# Altium integrated library Silicon Labs Clocks and Oscillators.IntLib: 678 symbols (part 14 of 45)
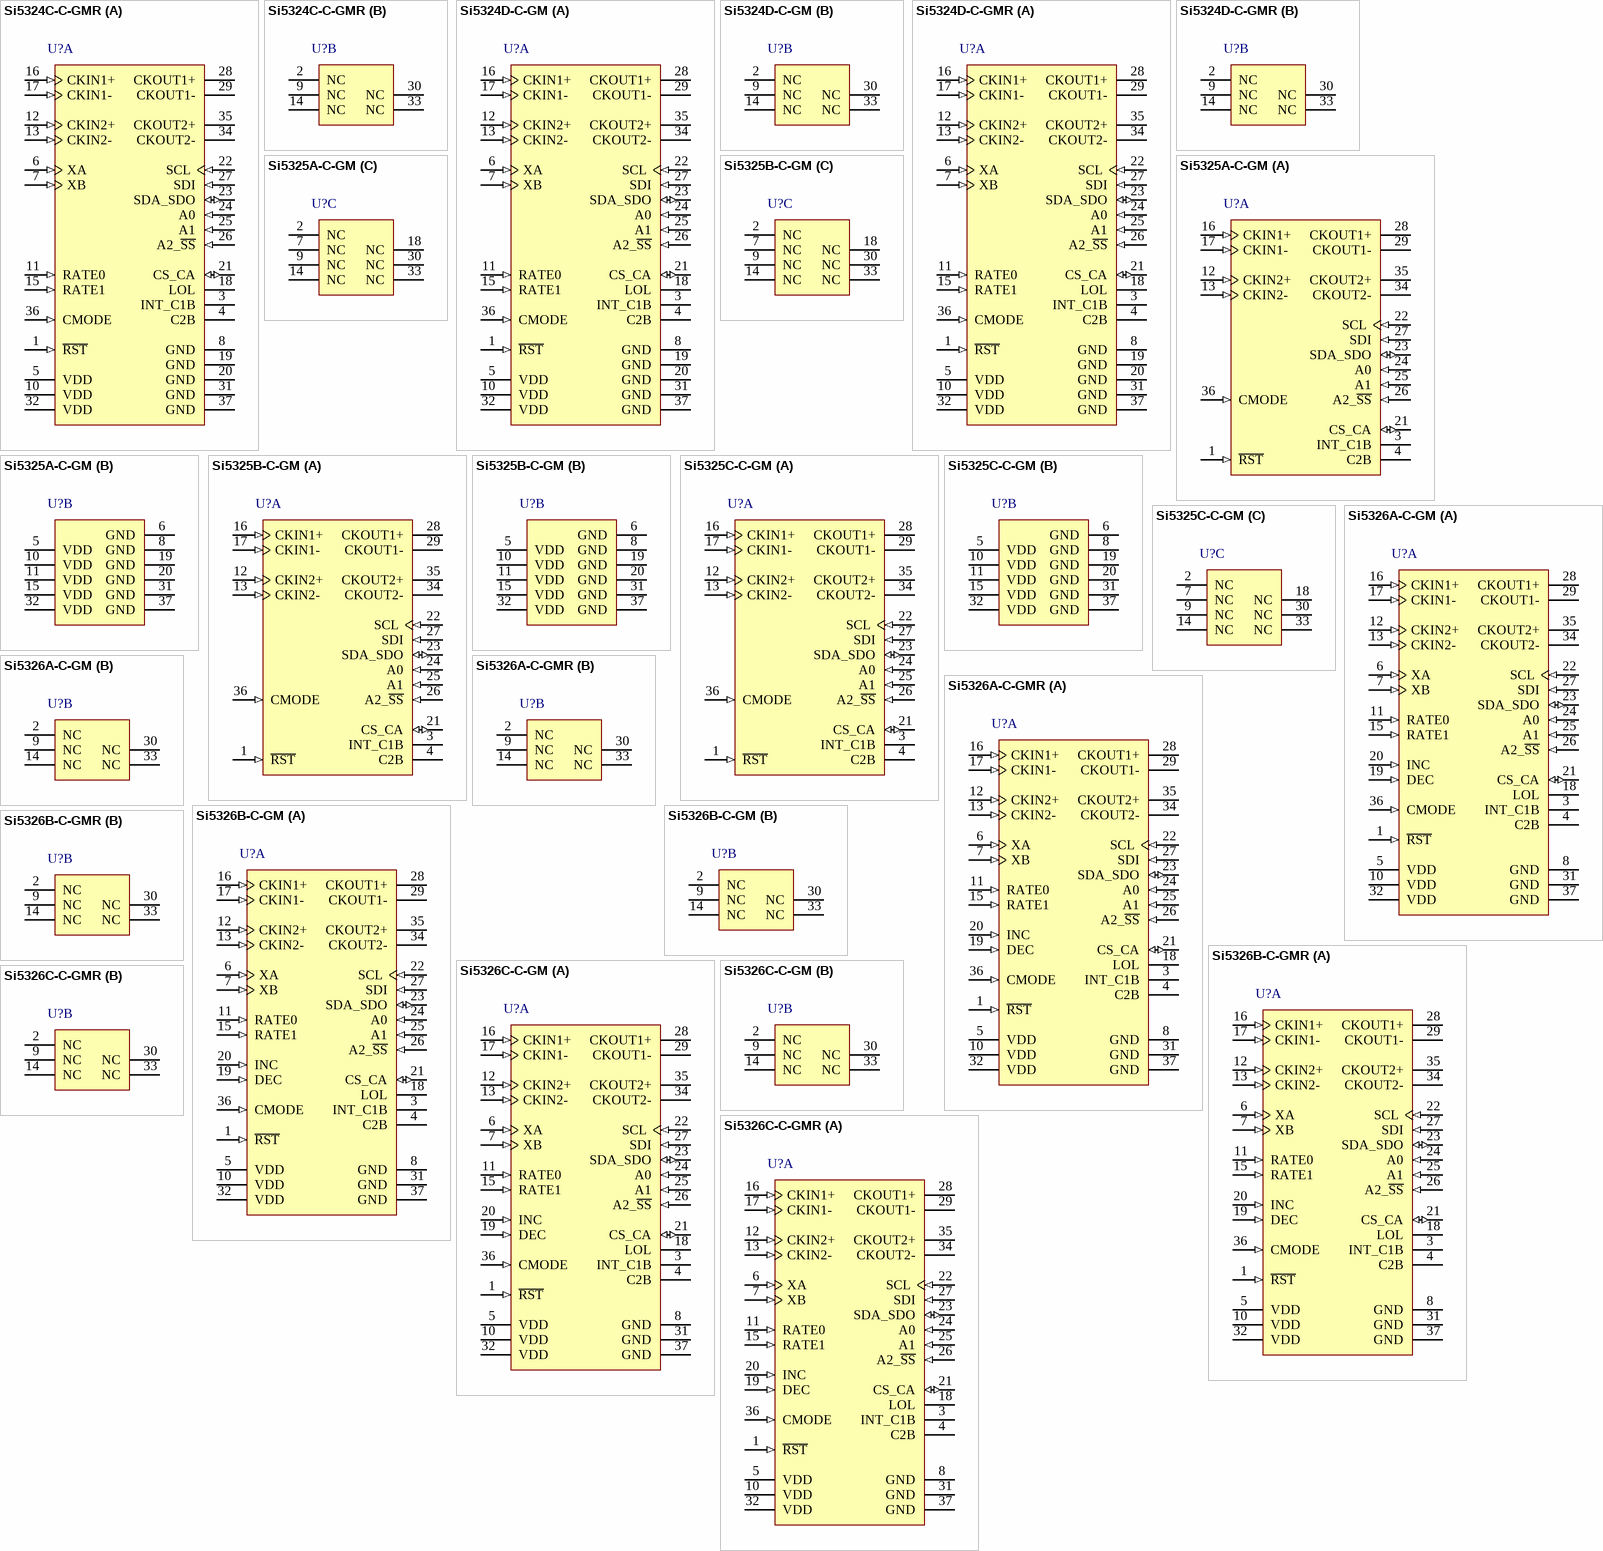
[diagram p57: symbols Si5324C-C-GMR to Si5326C-C-GMR]

## Si5326B-C-GM
designator U?
Any-Frequency Precision Clock Multiplier / Jitter Attenuator, 1.8 / 2.5 / 3.3 V, 808 MHz Max Output, -40 to 85 degC, 36-pin QFN; Manufacturer: Silicon Labs; PartNumber: Si5326B-C-GM; Output Format: LVPECL; LVDS; CML; LVCMOS; Output Frequency (MHz): 0.002 to 808; Reference Inputs: 2; VDD: 1.8 V; 2.5 V; 3.3 V; Sub-Family: Clock Generators; DatasheetVersion: Rev. 1.0; PackageReference: QFN-36; PackageDescription: 36-Pin Quad-Flat No-Leads Package, Body 6 x 6 mm, Pitch 0.5 mm; Supplier 1: Digi-Key; Supplier Part Number 1: 336-1745-ND; Supplier 2: Mouser; Supplier Part Number 2: 634-SI5326B-C-GM; Mounting Technology: Surface Mount; Code_JEDEC: MO-220; Code_IPC: J-STD-020; ComponentLink1Description: Manufacturer URL; ComponentLink1URL: http://www.silabs.com/; ComponentLink2Description: Datasheet; ComponentLink2URL: https://www.silabs.com/Support%20Documents/TechnicalDocs/Si5326.pdf; ComponentLink3Description: Package Specification; ComponentLink3URL: http://www.silabs.com/Support%20Documents/TechnicalDocs/Si5316.pdf
footprint SLAB-QFN-36-4100x4100TP_N (QFN, 36-Leads, Body 6x6mm, Pitch 0.5mm, Thermal Pad 4.1x4.1mm, IPC Medium Density)
footprint SLAB-QFN-36-4100x4100TP_L (QFN, 36-Leads, Body 6x6mm, Pitch 0.5mm, Thermal Pad 4.1x4.1mm, IPC High Density)
footprint SLAB-QFN-36-4100x4100TP_M (QFN, 36-Leads, Body 6x6mm, Pitch 0.5mm, Thermal Pad 4.1x4.1mm, IPC Low Density)
part A pins: 1 ~{RST} (in) "External Reset.", 3 INT_C1B (hiz) "Interrupt/CKIN1 Invalid Indicator.", 4 C2B (hiz) "CKIN2 Invalid Indicator.", 5 VDD (power) "Supply.", 6 XA (in) "External Crystal or Reference Clock.", 7 XB (in) "External Crystal or Reference Clock.", 8 GND (power) "Ground.", 10 VDD (power) "Supply.", 11 RATE0 (in) "External Crystal or Reference Clock Rate.", 12 CKIN2+ (in) "Clock Input 2.", 13 CKIN2- (in) "Clock Input 2.", 15 RATE1 (in) "External Crystal or Reference Clock Rate.", 16 CKIN1+ (in) "Clock Input 1.", 17 CKIN1- (in) "Clock Input 1.", 18 LOL (hiz) "PLL Loss of Lock Indicator.", 19 DEC (in) "Skew Decrement.", 20 INC (in) "Skew Increment.", 21 CS_CA (io) "Input Clock Select/Active Clock Indicator.", 22 SCL (in) "Serial Clock.", 23 SDA_SDO (io) "Serial Data.", 24 A0 (in) "Serial Port Address.", 25 A1 (in) "Serial Port Address.", 26 A2_~{SS} (in) "Serial Port Address/Slave Select.", 27 SDI (in) "Serial Data In.", 28 CKOUT1+ (hiz) "Output Clock 1.", 29 CKOUT1- (hiz) "Output Clock 1.", 31 GND (power) "Ground.", 32 VDD (power) "Supply.", 34 CKOUT2- (hiz) "Output Clock 2.", 35 CKOUT2+ (hiz) "Output Clock 2.", 36 CMODE (in) "Control Mode.", 37 GND (power) "Ground Pad."
part B pins: 2 NC "No Connection.", 9 NC "No Connection.", 14 NC "No Connection.", 30 NC "No Connection.", 33 NC "No Connection."

## Si5326B-C-GMR
designator U?
Any-Frequency Precision Clock Multiplier / Jitter Attenuator, 1.8 / 2.5 / 3.3 V, 808 MHz Max Output, -40 to 85 degC, 36-pin QFN, Tape and Reel; Manufacturer: Silicon Labs; PartNumber: Si5326B-C-GMR; Output Format: LVPECL; LVDS; CML; LVCMOS; Output Frequency (MHz): 0.002 to 808; Phase Jitter (RMS): 0.3 ps; Reference Inputs: 2; VDD: 1.8 V; 2.5 V; 3.3 V; Sub-Family: Clock Generators; DatasheetVersion: Rev. 1.0; PackageReference: QFN-36; PackageDescription: 36-Pin Quad-Flat No-Leads Package, Body 6 x 6 mm, Pitch 0.5 mm; Supplier 1: Digi-Key; Supplier Part Number 1: SI5326B-C-GMR-ND; Supplier 2: Mouser; Supplier Part Number 2: 634-SI5326B-C-GMR; Packing: Tape and Reel; Mounting Technology: Surface Mount; Code_JEDEC: MO-220; Code_IPC: J-STD-020; ComponentLink1Description: Manufacturer URL; ComponentLink1URL: http://www.silabs.com/; ComponentLink2Description: Datasheet; ComponentLink2URL: https://www.silabs.com/Support%20Documents/TechnicalDocs/Si5326.pdf; ComponentLink3Description: Package Specification; ComponentLink3URL: http://www.silabs.com/Support%20Documents/TechnicalDocs/Si5316.pdf
footprint SLAB-QFN-36-4100x4100TP_N (QFN, 36-Leads, Body 6x6mm, Pitch 0.5mm, Thermal Pad 4.1x4.1mm, IPC Medium Density)
footprint SLAB-QFN-36-4100x4100TP_L (QFN, 36-Leads, Body 6x6mm, Pitch 0.5mm, Thermal Pad 4.1x4.1mm, IPC High Density)
footprint SLAB-QFN-36-4100x4100TP_M (QFN, 36-Leads, Body 6x6mm, Pitch 0.5mm, Thermal Pad 4.1x4.1mm, IPC Low Density)
part A pins: 1 ~{RST} (in) "External Reset.", 3 INT_C1B (hiz) "Interrupt/CKIN1 Invalid Indicator.", 4 C2B (hiz) "CKIN2 Invalid Indicator.", 5 VDD (power) "Supply.", 6 XA (in) "External Crystal or Reference Clock.", 7 XB (in) "External Crystal or Reference Clock.", 8 GND (power) "Ground.", 10 VDD (power) "Supply.", 11 RATE0 (in) "External Crystal or Reference Clock Rate.", 12 CKIN2+ (in) "Clock Input 2.", 13 CKIN2- (in) "Clock Input 2.", 15 RATE1 (in) "External Crystal or Reference Clock Rate.", 16 CKIN1+ (in) "Clock Input 1.", 17 CKIN1- (in) "Clock Input 1.", 18 LOL (hiz) "PLL Loss of Lock Indicator.", 19 DEC (in) "Skew Decrement.", 20 INC (in) "Skew Increment.", 21 CS_CA (io) "Input Clock Select/Active Clock Indicator.", 22 SCL (in) "Serial Clock.", 23 SDA_SDO (io) "Serial Data.", 24 A0 (in) "Serial Port Address.", 25 A1 (in) "Serial Port Address.", 26 A2_~{SS} (in) "Serial Port Address/Slave Select.", 27 SDI (in) "Serial Data In.", 28 CKOUT1+ (hiz) "Output Clock 1.", 29 CKOUT1- (hiz) "Output Clock 1.", 31 GND (power) "Ground.", 32 VDD (power) "Supply.", 34 CKOUT2- (hiz) "Output Clock 2.", 35 CKOUT2+ (hiz) "Output Clock 2.", 36 CMODE (in) "Control Mode.", 37 GND (power) "Ground Pad."
part B pins: 2 NC "No Connection.", 9 NC "No Connection.", 14 NC "No Connection.", 30 NC "No Connection.", 33 NC "No Connection."

## Si5326C-C-GM
designator U?
Any-Frequency Precision Clock Multiplier / Jitter Attenuator, 1.8 / 2.5 / 3.3 V, 346 MHz Max Output, -40 to 85 degC, 36-pin QFN; Manufacturer: Silicon Labs; PartNumber: Si5326C-C-GM; Output Format: LVPECL; LVDS; CML; LVCMOS; Output Frequency (MHz): 0.002 to 346; Reference Inputs: 2; VDD: 1.8 V; 2.5 V; 3.3 V; Sub-Family: Clock Generators; DatasheetVersion: Rev. 1.0; PackageReference: QFN-36; PackageDescription: 36-Pin Quad-Flat No-Leads Package, Body 6 x 6 mm, Pitch 0.5 mm; Supplier 1: Digi-Key; Supplier Part Number 1: 336-1746-5-ND; Supplier 2: Mouser; Supplier Part Number 2: 634-SI5326C-C-GM; Mounting Technology: Surface Mount; Code_JEDEC: MO-220; Code_IPC: J-STD-020; ComponentLink1Description: Manufacturer URL; ComponentLink1URL: http://www.silabs.com/; ComponentLink2Description: Datasheet; ComponentLink2URL: https://www.silabs.com/Support%20Documents/TechnicalDocs/Si5326.pdf; ComponentLink3Description: Package Specification; ComponentLink3URL: http://www.silabs.com/Support%20Documents/TechnicalDocs/Si5316.pdf
footprint SLAB-QFN-36-4100x4100TP_N (QFN, 36-Leads, Body 6x6mm, Pitch 0.5mm, Thermal Pad 4.1x4.1mm, IPC Medium Density)
footprint SLAB-QFN-36-4100x4100TP_L (QFN, 36-Leads, Body 6x6mm, Pitch 0.5mm, Thermal Pad 4.1x4.1mm, IPC High Density)
footprint SLAB-QFN-36-4100x4100TP_M (QFN, 36-Leads, Body 6x6mm, Pitch 0.5mm, Thermal Pad 4.1x4.1mm, IPC Low Density)
part A pins: 1 ~{RST} (in) "External Reset.", 3 INT_C1B (hiz) "Interrupt/CKIN1 Invalid Indicator.", 4 C2B (hiz) "CKIN2 Invalid Indicator.", 5 VDD (power) "Supply.", 6 XA (in) "External Crystal or Reference Clock.", 7 XB (in) "External Crystal or Reference Clock.", 8 GND (power) "Ground.", 10 VDD (power) "Supply.", 11 RATE0 (in) "External Crystal or Reference Clock Rate.", 12 CKIN2+ (in) "Clock Input 2.", 13 CKIN2- (in) "Clock Input 2.", 15 RATE1 (in) "External Crystal or Reference Clock Rate.", 16 CKIN1+ (in) "Clock Input 1.", 17 CKIN1- (in) "Clock Input 1.", 18 LOL (hiz) "PLL Loss of Lock Indicator.", 19 DEC (in) "Skew Decrement.", 20 INC (in) "Skew Increment.", 21 CS_CA (io) "Input Clock Select/Active Clock Indicator.", 22 SCL (in) "Serial Clock.", 23 SDA_SDO (io) "Serial Data.", 24 A0 (in) "Serial Port Address.", 25 A1 (in) "Serial Port Address.", 26 A2_~{SS} (in) "Serial Port Address/Slave Select.", 27 SDI (in) "Serial Data In.", 28 CKOUT1+ (hiz) "Output Clock 1.", 29 CKOUT1- (hiz) "Output Clock 1.", 31 GND (power) "Ground.", 32 VDD (power) "Supply.", 34 CKOUT2- (hiz) "Output Clock 2.", 35 CKOUT2+ (hiz) "Output Clock 2.", 36 CMODE (in) "Control Mode.", 37 GND (power) "Ground Pad."
part B pins: 2 NC "No Connection.", 9 NC "No Connection.", 14 NC "No Connection.", 30 NC "No Connection.", 33 NC "No Connection."

## Si5326C-C-GMR
designator U?
Any-Frequency Precision Clock Multiplier / Jitter Attenuator, 1.8 / 2.5 / 3.3 V, 346 MHz Max Output, -40 to 85 degC, 36-pin QFN, Tape and Reel; Manufacturer: Silicon Labs; PartNumber: Si5326C-C-GMR; Output Format: LVPECL; LVDS; CML; LVCMOS; Output Frequency (MHz): 0.002 to 346; Phase Jitter (RMS): 0.3 ps; Reference Inputs: 2; VDD: 1.8 V; 2.5 V; 3.3 V; Sub-Family: Clock Generators; DatasheetVersion: Rev. 1.0; PackageReference: QFN-36; PackageDescription: 36-Pin Quad-Flat No-Leads Package, Body 6 x 6 mm, Pitch 0.5 mm; Supplier 1: Digi-Key; Supplier Part Number 1: SI5326C-C-GMR-ND; Supplier 2: Mouser; Supplier Part Number 2: 634-SI5326C-C-GMR; Packing: Tape and Reel; Mounting Technology: Surface Mount; Code_JEDEC: MO-220; Code_IPC: J-STD-020; ComponentLink1Description: Manufacturer URL; ComponentLink1URL: http://www.silabs.com/; ComponentLink2Description: Datasheet; ComponentLink2URL: https://www.silabs.com/Support%20Documents/TechnicalDocs/Si5326.pdf; ComponentLink3Description: Package Specification; ComponentLink3URL: http://www.silabs.com/Support%20Documents/TechnicalDocs/Si5316.pdf
footprint SLAB-QFN-36-4100x4100TP_N (QFN, 36-Leads, Body 6x6mm, Pitch 0.5mm, Thermal Pad 4.1x4.1mm, IPC Medium Density)
footprint SLAB-QFN-36-4100x4100TP_L (QFN, 36-Leads, Body 6x6mm, Pitch 0.5mm, Thermal Pad 4.1x4.1mm, IPC High Density)
footprint SLAB-QFN-36-4100x4100TP_M (QFN, 36-Leads, Body 6x6mm, Pitch 0.5mm, Thermal Pad 4.1x4.1mm, IPC Low Density)
part A pins: 1 ~{RST} (in) "External Reset.", 3 INT_C1B (hiz) "Interrupt/CKIN1 Invalid Indicator.", 4 C2B (hiz) "CKIN2 Invalid Indicator.", 5 VDD (power) "Supply.", 6 XA (in) "External Crystal or Reference Clock.", 7 XB (in) "External Crystal or Reference Clock.", 8 GND (power) "Ground.", 10 VDD (power) "Supply.", 11 RATE0 (in) "External Crystal or Reference Clock Rate.", 12 CKIN2+ (in) "Clock Input 2.", 13 CKIN2- (in) "Clock Input 2.", 15 RATE1 (in) "External Crystal or Reference Clock Rate.", 16 CKIN1+ (in) "Clock Input 1.", 17 CKIN1- (in) "Clock Input 1.", 18 LOL (hiz) "PLL Loss of Lock Indicator.", 19 DEC (in) "Skew Decrement.", 20 INC (in) "Skew Increment.", 21 CS_CA (io) "Input Clock Select/Active Clock Indicator.", 22 SCL (in) "Serial Clock.", 23 SDA_SDO (io) "Serial Data.", 24 A0 (in) "Serial Port Address.", 25 A1 (in) "Serial Port Address.", 26 A2_~{SS} (in) "Serial Port Address/Slave Select.", 27 SDI (in) "Serial Data In.", 28 CKOUT1+ (hiz) "Output Clock 1.", 29 CKOUT1- (hiz) "Output Clock 1.", 31 GND (power) "Ground.", 32 VDD (power) "Supply.", 34 CKOUT2- (hiz) "Output Clock 2.", 35 CKOUT2+ (hiz) "Output Clock 2.", 36 CMODE (in) "Control Mode.", 37 GND (power) "Ground Pad."
part B pins: 2 NC "No Connection.", 9 NC "No Connection.", 14 NC "No Connection.", 30 NC "No Connection.", 33 NC "No Connection."

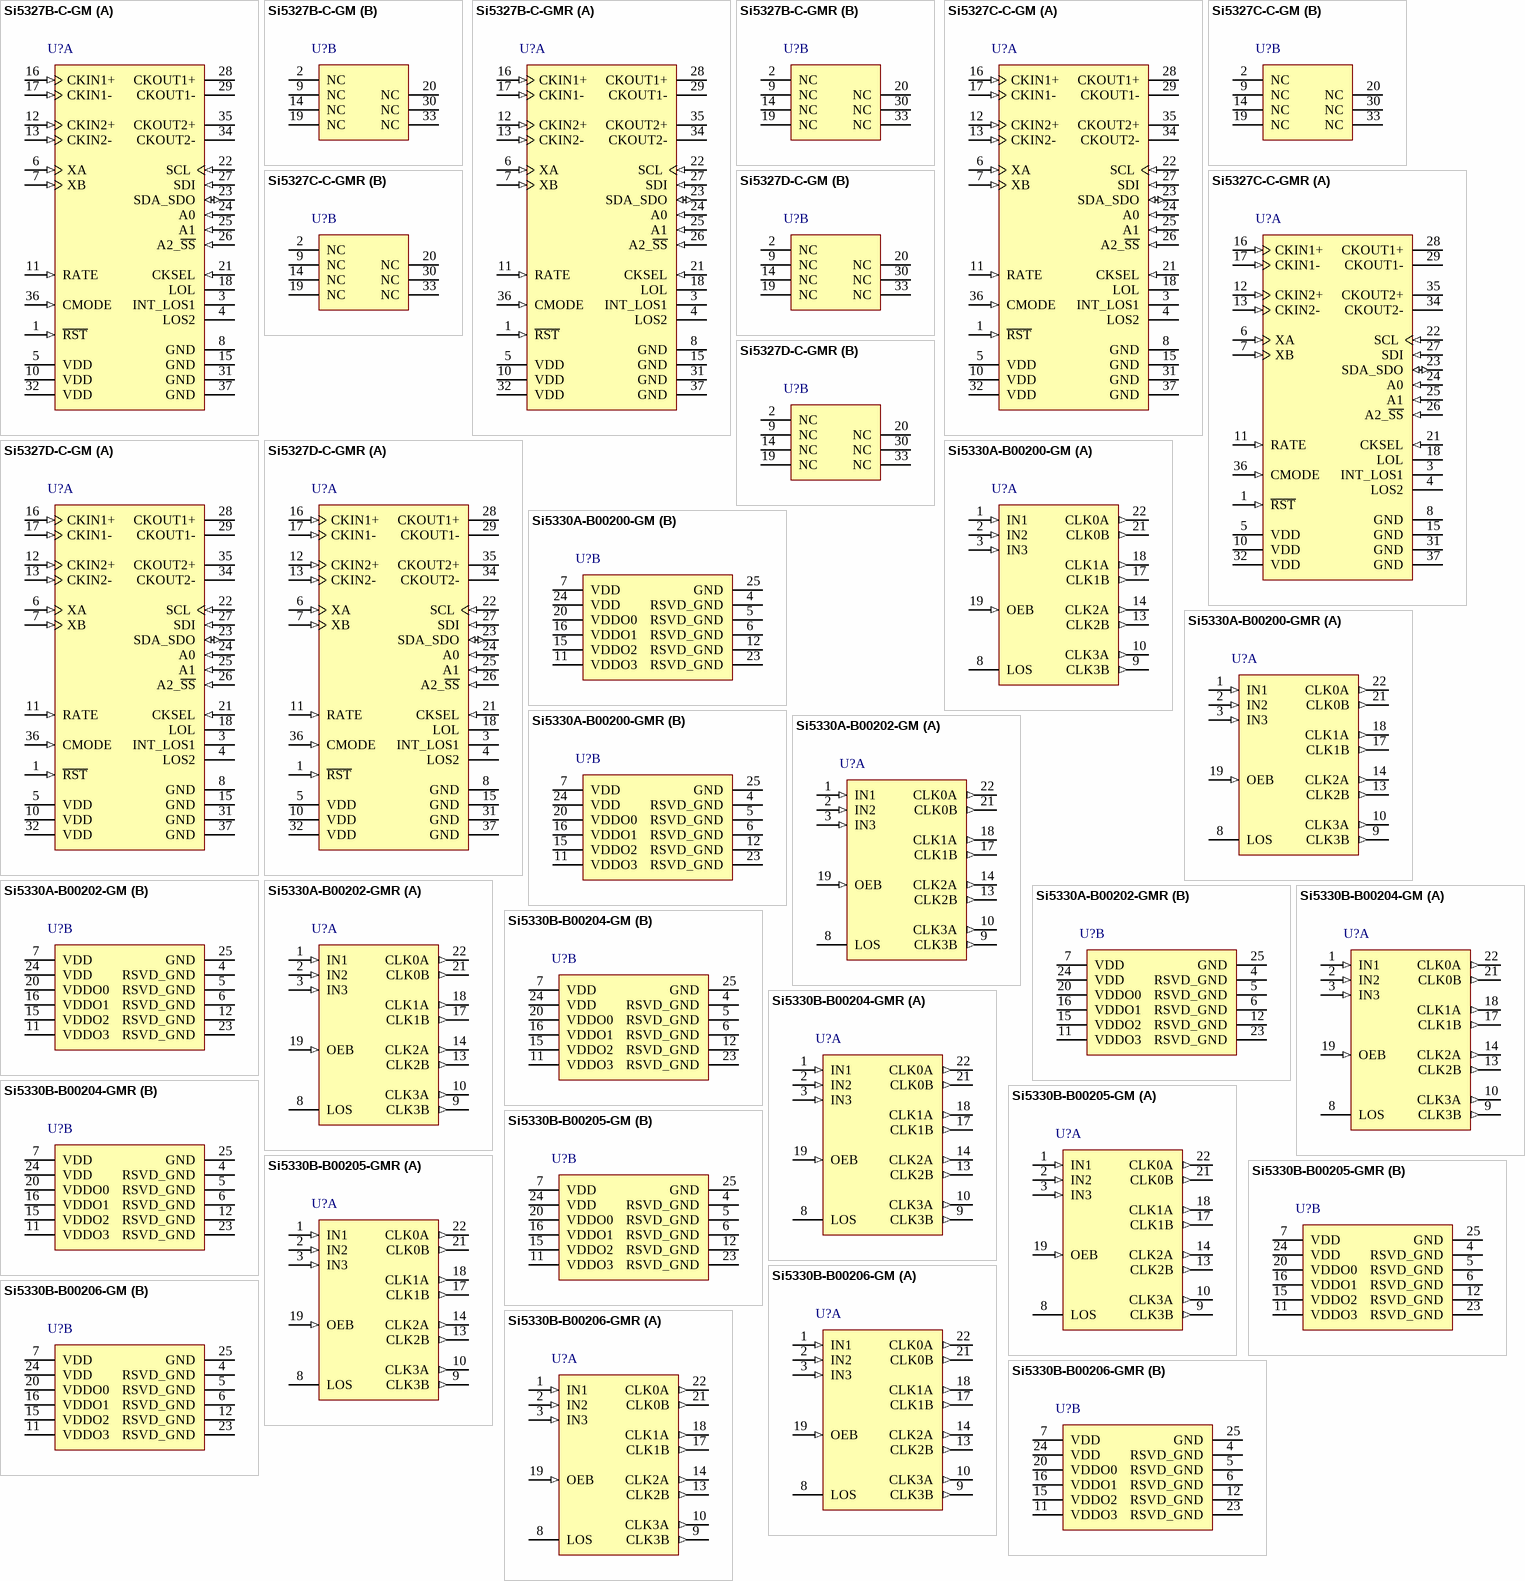
[diagram p15: symbols Si5327B-C-GM to Si5330B-B00206-GMR]

## Si5327B-C-GM
designator U?
Any-Frequency Precision Clock Multiplier / Jitter Attenuator, 1.8 / 2.5 / 3.3 V, 0.002 to 808 MHz Output, -40 to 85 degC, 36-pin QFN; Manufacturer: Silicon Labs; PartNumber: Si5327B-C-GM; Output Format: LVPECL; LVDS; CML; LVCMOS; Reference Inputs: 2; VDD: 1.8 V; 2.5 V; 3.3 V; Sub-Family: Clock Generators; DatasheetVersion: Rev. 1.0; PackageReference: QFN-36; PackageDescription: 36-Pin Quad-Flat No-Leads Package, Body 6 x 6 mm, Pitch 0.5 mm; Supplier 1: Digi-Key; Supplier Part Number 1: SI5327B-C-GM-ND; Supplier 2: Mouser; Supplier Part Number 2: 634-SI5327B-C-GM; Output Frequency (MHz): 0.002 to 808; Mounting Technology: Surface Mount; Code_JEDEC: MO-220; Code_IPC: J-STD-020; ComponentLink1Description: Manufacturer URL; ComponentLink1URL: http://www.silabs.com/; ComponentLink2Description: Datasheet; ComponentLink2URL: http://www.silabs.com/Support%20Documents/TechnicalDocs/Si5327.pdf; ComponentLink3Description: Package Specification; ComponentLink3URL: http://www.silabs.com/Support%20Documents/TechnicalDocs/Si5316.pdf
footprint SLAB-QFN-36-4100x4100TP_N (QFN, 36-Leads, Body 6x6mm, Pitch 0.5mm, Thermal Pad 4.1x4.1mm, IPC Medium Density)
footprint SLAB-QFN-36-4100x4100TP_L (QFN, 36-Leads, Body 6x6mm, Pitch 0.5mm, Thermal Pad 4.1x4.1mm, IPC High Density)
footprint SLAB-QFN-36-4100x4100TP_M (QFN, 36-Leads, Body 6x6mm, Pitch 0.5mm, Thermal Pad 4.1x4.1mm, IPC Low Density)
part A pins: 1 ~{RST} (in) "External Reset.", 3 INT_LOS1 (hiz) "Interrupt/CKIN1 LOS Indicator.", 4 LOS2 (hiz) "CKIN2 Invalid Indicator.", 5 VDD (power) "Supply.", 6 XA (in) "External Crystal or Reference Clock.", 7 XB (in) "External Crystal or Reference Clock.", 8 GND (power) "Ground.", 10 VDD (power) "Supply.", 11 RATE (in) "External Crystal or Reference Clock Rate.", 12 CKIN2+ (in) "Clock Input 2.", 13 CKIN2- (in) "Clock Input 2.", 15 GND (power) "Ground.", 16 CKIN1+ (in) "Clock Input 1.", 17 CKIN1- (in) "Clock Input 1.", 18 LOL (hiz) "PLL Loss of Lock Indicator.", 21 CKSEL (in) "Input Clock Select.", 22 SCL (in) "Serial Clock.", 23 SDA_SDO (io) "Serial Data.", 24 A0 (in) "Serial Port Address.", 25 A1 (in) "Serial Port Address.", 26 A2_~{SS} (in) "Serial Port Address/Slave Select.", 27 SDI (in) "Serial Data In.", 28 CKOUT1+ (hiz) "Output Clock 1", 29 CKOUT1- (hiz) "Output Clock 1", 31 GND (power) "Ground.", 32 VDD (power) "Supply.", 34 CKOUT2- (hiz) "Output Clock 2.", 35 CKOUT2+ (hiz) "Output Clock 2.", 36 CMODE (in) "Control Mode.", 37 GND (power) "Ground Pad."
part B pins: 2 NC "No Connection.", 9 NC "No Connection.", 14 NC "No Connection.", 19 NC "No Connection.", 20 NC "No Connection.", 30 NC "No Connection.", 33 NC "No Connection."

## Si5327B-C-GMR
designator U?
Any-Frequency Precision Clock Multiplier / Jitter Attenuator, 1.8 / 2.5 / 3.3 V, 0.002 to 808 MHz Output, -40 to 85 degC, 36-pin QFN, Tape and Reel; Manufacturer: Silicon Labs; PartNumber: Si5327B-C-GMR; Output Format: LVPECL; LVDS; CML; LVCMOS; Phase Jitter (RMS): 500 fs; Reference Inputs: 2; VDD: 1.8 V; 2.5 V; 3.3 V; Sub-Family: Clock Generators; DatasheetVersion: Rev. 1.0; PackageReference: QFN-36; PackageDescription: 36-Pin Quad-Flat No-Leads Package, Body 6 x 6 mm, Pitch 0.5 mm; Supplier 1: Digi-Key; Supplier Part Number 1: SI5327B-C-GMR-ND; Supplier 2: Mouser; Supplier Part Number 2: 634-SI5327B-C-GMR; Output Frequency (MHz): 0.002 to 808; Packing: Tape and Reel; Mounting Technology: Surface Mount; Code_JEDEC: MO-220; Code_IPC: J-STD-020; ComponentLink1Description: Manufacturer URL; ComponentLink1URL: http://www.silabs.com/; ComponentLink2Description: Datasheet; ComponentLink2URL: http://www.silabs.com/Support%20Documents/TechnicalDocs/Si5327.pdf; ComponentLink3Description: Package Specification; ComponentLink3URL: http://www.silabs.com/Support%20Documents/TechnicalDocs/Si5316.pdf
footprint SLAB-QFN-36-4100x4100TP_N (QFN, 36-Leads, Body 6x6mm, Pitch 0.5mm, Thermal Pad 4.1x4.1mm, IPC Medium Density)
footprint SLAB-QFN-36-4100x4100TP_L (QFN, 36-Leads, Body 6x6mm, Pitch 0.5mm, Thermal Pad 4.1x4.1mm, IPC High Density)
footprint SLAB-QFN-36-4100x4100TP_M (QFN, 36-Leads, Body 6x6mm, Pitch 0.5mm, Thermal Pad 4.1x4.1mm, IPC Low Density)
part A pins: 1 ~{RST} (in) "External Reset.", 3 INT_LOS1 (hiz) "Interrupt/CKIN1 LOS Indicator.", 4 LOS2 (hiz) "CKIN2 Invalid Indicator.", 5 VDD (power) "Supply.", 6 XA (in) "External Crystal or Reference Clock.", 7 XB (in) "External Crystal or Reference Clock.", 8 GND (power) "Ground.", 10 VDD (power) "Supply.", 11 RATE (in) "External Crystal or Reference Clock Rate.", 12 CKIN2+ (in) "Clock Input 2.", 13 CKIN2- (in) "Clock Input 2.", 15 GND (power) "Ground.", 16 CKIN1+ (in) "Clock Input 1.", 17 CKIN1- (in) "Clock Input 1.", 18 LOL (hiz) "PLL Loss of Lock Indicator.", 21 CKSEL (in) "Input Clock Select.", 22 SCL (in) "Serial Clock.", 23 SDA_SDO (io) "Serial Data.", 24 A0 (in) "Serial Port Address.", 25 A1 (in) "Serial Port Address.", 26 A2_~{SS} (in) "Serial Port Address/Slave Select.", 27 SDI (in) "Serial Data In.", 28 CKOUT1+ (hiz) "Output Clock 1", 29 CKOUT1- (hiz) "Output Clock 1", 31 GND (power) "Ground.", 32 VDD (power) "Supply.", 34 CKOUT2- (hiz) "Output Clock 2.", 35 CKOUT2+ (hiz) "Output Clock 2.", 36 CMODE (in) "Control Mode.", 37 GND (power) "Ground Pad."
part B pins: 2 NC "No Connection.", 9 NC "No Connection.", 14 NC "No Connection.", 19 NC "No Connection.", 20 NC "No Connection.", 30 NC "No Connection.", 33 NC "No Connection."

## Si5327C-C-GM
designator U?
Any-Frequency Precision Clock Multiplier / Jitter Attenuator, 1.8 / 2.5 / 3.3 V, 0.002 to 346 MHz Output, -40 to 85 degC, 36-pin QFN; Manufacturer: Silicon Labs; PartNumber: Si5327C-C-GM; Output Format: LVPECL; LVDS; CML; LVCMOS; Reference Inputs: 2; VDD: 1.8 V; 2.5 V; 3.3 V; Sub-Family: Clock Generators; DatasheetVersion: Rev. 1.0; PackageReference: QFN-36; PackageDescription: 36-Pin Quad-Flat No-Leads Package, Body 6 x 6 mm, Pitch 0.5 mm; Supplier 1: Digi-Key; Supplier Part Number 1: SI5327C-C-GM-ND; Supplier 2: Mouser; Supplier Part Number 2: 634-SI5327C-C-GM; Output Frequency (MHz): 0.002 to 346; Mounting Technology: Surface Mount; Code_JEDEC: MO-220; Code_IPC: J-STD-020; ComponentLink1Description: Manufacturer URL; ComponentLink1URL: http://www.silabs.com/; ComponentLink2Description: Datasheet; ComponentLink2URL: http://www.silabs.com/Support%20Documents/TechnicalDocs/Si5327.pdf; ComponentLink3Description: Package Specification; ComponentLink3URL: http://www.silabs.com/Support%20Documents/TechnicalDocs/Si5316.pdf
footprint SLAB-QFN-36-4100x4100TP_N (QFN, 36-Leads, Body 6x6mm, Pitch 0.5mm, Thermal Pad 4.1x4.1mm, IPC Medium Density)
footprint SLAB-QFN-36-4100x4100TP_L (QFN, 36-Leads, Body 6x6mm, Pitch 0.5mm, Thermal Pad 4.1x4.1mm, IPC High Density)
footprint SLAB-QFN-36-4100x4100TP_M (QFN, 36-Leads, Body 6x6mm, Pitch 0.5mm, Thermal Pad 4.1x4.1mm, IPC Low Density)
part A pins: 1 ~{RST} (in) "External Reset.", 3 INT_LOS1 (hiz) "Interrupt/CKIN1 LOS Indicator.", 4 LOS2 (hiz) "CKIN2 Invalid Indicator.", 5 VDD (power) "Supply.", 6 XA (in) "External Crystal or Reference Clock.", 7 XB (in) "External Crystal or Reference Clock.", 8 GND (power) "Ground.", 10 VDD (power) "Supply.", 11 RATE (in) "External Crystal or Reference Clock Rate.", 12 CKIN2+ (in) "Clock Input 2.", 13 CKIN2- (in) "Clock Input 2.", 15 GND (power) "Ground.", 16 CKIN1+ (in) "Clock Input 1.", 17 CKIN1- (in) "Clock Input 1.", 18 LOL (hiz) "PLL Loss of Lock Indicator.", 21 CKSEL (in) "Input Clock Select.", 22 SCL (in) "Serial Clock.", 23 SDA_SDO (io) "Serial Data.", 24 A0 (in) "Serial Port Address.", 25 A1 (in) "Serial Port Address.", 26 A2_~{SS} (in) "Serial Port Address/Slave Select.", 27 SDI (in) "Serial Data In.", 28 CKOUT1+ (hiz) "Output Clock 1", 29 CKOUT1- (hiz) "Output Clock 1", 31 GND (power) "Ground.", 32 VDD (power) "Supply.", 34 CKOUT2- (hiz) "Output Clock 2.", 35 CKOUT2+ (hiz) "Output Clock 2.", 36 CMODE (in) "Control Mode.", 37 GND (power) "Ground Pad."
part B pins: 2 NC "No Connection.", 9 NC "No Connection.", 14 NC "No Connection.", 19 NC "No Connection.", 20 NC "No Connection.", 30 NC "No Connection.", 33 NC "No Connection."

## Si5327C-C-GMR
designator U?
Any-Frequency Precision Clock Multiplier / Jitter Attenuator, 1.8 / 2.5 / 3.3 V, 0.002 to 346 MHz Output, -40 to 85 degC, 36-pin QFN, Tape and Reel; Manufacturer: Silicon Labs; PartNumber: Si5327C-C-GMR; Output Format: LVPECL; LVDS; CML; LVCMOS; Phase Jitter (RMS): 500 fs; Reference Inputs: 2; VDD: 1.8 V; 2.5 V; 3.3 V; Sub-Family: Clock Generators; DatasheetVersion: Rev. 1.0; PackageReference: QFN-36; PackageDescription: 36-Pin Quad-Flat No-Leads Package, Body 6 x 6 mm, Pitch 0.5 mm; Supplier 1: Digi-Key; Supplier Part Number 1: SI5327C-C-GMR-ND; Supplier 2: Mouser; Supplier Part Number 2: 634-SI5327C-C-GMR; Output Frequency (MHz): 0.002 to 346; Packing: Tape and Reel; Mounting Technology: Surface Mount; Code_JEDEC: MO-220; Code_IPC: J-STD-020; ComponentLink1Description: Manufacturer URL; ComponentLink1URL: http://www.silabs.com/; ComponentLink2Description: Datasheet; ComponentLink2URL: http://www.silabs.com/Support%20Documents/TechnicalDocs/Si5327.pdf; ComponentLink3Description: Package Specification; ComponentLink3URL: http://www.silabs.com/Support%20Documents/TechnicalDocs/Si5316.pdf
footprint SLAB-QFN-36-4100x4100TP_N (QFN, 36-Leads, Body 6x6mm, Pitch 0.5mm, Thermal Pad 4.1x4.1mm, IPC Medium Density)
footprint SLAB-QFN-36-4100x4100TP_L (QFN, 36-Leads, Body 6x6mm, Pitch 0.5mm, Thermal Pad 4.1x4.1mm, IPC High Density)
footprint SLAB-QFN-36-4100x4100TP_M (QFN, 36-Leads, Body 6x6mm, Pitch 0.5mm, Thermal Pad 4.1x4.1mm, IPC Low Density)
part A pins: 1 ~{RST} (in) "External Reset.", 3 INT_LOS1 (hiz) "Interrupt/CKIN1 LOS Indicator.", 4 LOS2 (hiz) "CKIN2 Invalid Indicator.", 5 VDD (power) "Supply.", 6 XA (in) "External Crystal or Reference Clock.", 7 XB (in) "External Crystal or Reference Clock.", 8 GND (power) "Ground.", 10 VDD (power) "Supply.", 11 RATE (in) "External Crystal or Reference Clock Rate.", 12 CKIN2+ (in) "Clock Input 2.", 13 CKIN2- (in) "Clock Input 2.", 15 GND (power) "Ground.", 16 CKIN1+ (in) "Clock Input 1.", 17 CKIN1- (in) "Clock Input 1.", 18 LOL (hiz) "PLL Loss of Lock Indicator.", 21 CKSEL (in) "Input Clock Select.", 22 SCL (in) "Serial Clock.", 23 SDA_SDO (io) "Serial Data.", 24 A0 (in) "Serial Port Address.", 25 A1 (in) "Serial Port Address.", 26 A2_~{SS} (in) "Serial Port Address/Slave Select.", 27 SDI (in) "Serial Data In.", 28 CKOUT1+ (hiz) "Output Clock 1", 29 CKOUT1- (hiz) "Output Clock 1", 31 GND (power) "Ground.", 32 VDD (power) "Supply.", 34 CKOUT2- (hiz) "Output Clock 2.", 35 CKOUT2+ (hiz) "Output Clock 2.", 36 CMODE (in) "Control Mode.", 37 GND (power) "Ground Pad."
part B pins: 2 NC "No Connection.", 9 NC "No Connection.", 14 NC "No Connection.", 19 NC "No Connection.", 20 NC "No Connection.", 30 NC "No Connection.", 33 NC "No Connection."

## Si5327D-C-GM
designator U?
Any-Frequency Precision Clock Multiplier / Jitter Attenuator, 1.8 / 2.5 / 3.3 V, 0.002 to 243 MHz Output, -40 to 85 degC, 36-pin QFN; Manufacturer: Silicon Labs; PartNumber: Si5327D-C-GM; Output Format: LVPECL; LVDS; CML; LVCMOS; Reference Inputs: 2; VDD: 1.8 V; 2.5 V; 3.3 V; Sub-Family: Clock Generators; DatasheetVersion: Rev. 1.0; PackageReference: QFN-36; PackageDescription: 36-Pin Quad-Flat No-Leads Package, Body 6 x 6 mm, Pitch 0.5 mm; Supplier 1: Digi-Key; Supplier Part Number 1: SI5327D-C-GM-ND; Supplier 2: Mouser; Supplier Part Number 2: 634-SI5327D-C-GM; Output Frequency (MHz): 0.002 to 243; Mounting Technology: Surface Mount; Code_JEDEC: MO-220; Code_IPC: J-STD-020; ComponentLink1Description: Manufacturer URL; ComponentLink1URL: http://www.silabs.com/; ComponentLink2Description: Datasheet; ComponentLink2URL: http://www.silabs.com/Support%20Documents/TechnicalDocs/Si5327.pdf; ComponentLink3Description: Package Specification; ComponentLink3URL: http://www.silabs.com/Support%20Documents/TechnicalDocs/Si5316.pdf
footprint SLAB-QFN-36-4100x4100TP_N (QFN, 36-Leads, Body 6x6mm, Pitch 0.5mm, Thermal Pad 4.1x4.1mm, IPC Medium Density)
footprint SLAB-QFN-36-4100x4100TP_L (QFN, 36-Leads, Body 6x6mm, Pitch 0.5mm, Thermal Pad 4.1x4.1mm, IPC High Density)
footprint SLAB-QFN-36-4100x4100TP_M (QFN, 36-Leads, Body 6x6mm, Pitch 0.5mm, Thermal Pad 4.1x4.1mm, IPC Low Density)
part A pins: 1 ~{RST} (in) "External Reset.", 3 INT_LOS1 (hiz) "Interrupt/CKIN1 LOS Indicator.", 4 LOS2 (hiz) "CKIN2 Invalid Indicator.", 5 VDD (power) "Supply.", 6 XA (in) "External Crystal or Reference Clock.", 7 XB (in) "External Crystal or Reference Clock.", 8 GND (power) "Ground.", 10 VDD (power) "Supply.", 11 RATE (in) "External Crystal or Reference Clock Rate.", 12 CKIN2+ (in) "Clock Input 2.", 13 CKIN2- (in) "Clock Input 2.", 15 GND (power) "Ground.", 16 CKIN1+ (in) "Clock Input 1.", 17 CKIN1- (in) "Clock Input 1.", 18 LOL (hiz) "PLL Loss of Lock Indicator.", 21 CKSEL (in) "Input Clock Select.", 22 SCL (in) "Serial Clock.", 23 SDA_SDO (io) "Serial Data.", 24 A0 (in) "Serial Port Address.", 25 A1 (in) "Serial Port Address.", 26 A2_~{SS} (in) "Serial Port Address/Slave Select.", 27 SDI (in) "Serial Data In.", 28 CKOUT1+ (hiz) "Output Clock 1", 29 CKOUT1- (hiz) "Output Clock 1", 31 GND (power) "Ground.", 32 VDD (power) "Supply.", 34 CKOUT2- (hiz) "Output Clock 2.", 35 CKOUT2+ (hiz) "Output Clock 2.", 36 CMODE (in) "Control Mode.", 37 GND (power) "Ground Pad."
part B pins: 2 NC "No Connection.", 9 NC "No Connection.", 14 NC "No Connection.", 19 NC "No Connection.", 20 NC "No Connection.", 30 NC "No Connection.", 33 NC "No Connection."

## Si5327D-C-GMR
designator U?
Any-Frequency Precision Clock Multiplier / Jitter Attenuator, 1.8 / 2.5 / 3.3 V, 0.002 to 243 MHz Output, -40 to 85 degC, 36-pin QFN, Tape and Reel; Manufacturer: Silicon Labs; PartNumber: Si5327D-C-GMR; Output Format: LVPECL; LVDS; CML; LVCMOS; Phase Jitter (RMS): 500 fs; Reference Inputs: 2; VDD: 1.8 V; 2.5 V; 3.3 V; Sub-Family: Clock Generators; DatasheetVersion: Rev. 1.0; PackageReference: QFN-36; PackageDescription: 36-Pin Quad-Flat No-Leads Package, Body 6 x 6 mm, Pitch 0.5 mm; Supplier 1: Digi-Key; Supplier Part Number 1: SI5327D-C-GMR-ND; Supplier 2: Mouser; Supplier Part Number 2: 634-SI5327D-C-GMR; Output Frequency (MHz): 0.002 to 243; Packing: Tape and Reel; Mounting Technology: Surface Mount; Code_JEDEC: MO-220; Code_IPC: J-STD-020; ComponentLink1Description: Manufacturer URL; ComponentLink1URL: http://www.silabs.com/; ComponentLink2Description: Datasheet; ComponentLink2URL: http://www.silabs.com/Support%20Documents/TechnicalDocs/Si5327.pdf; ComponentLink3Description: Package Specification; ComponentLink3URL: http://www.silabs.com/Support%20Documents/TechnicalDocs/Si5316.pdf
footprint SLAB-QFN-36-4100x4100TP_N (QFN, 36-Leads, Body 6x6mm, Pitch 0.5mm, Thermal Pad 4.1x4.1mm, IPC Medium Density)
footprint SLAB-QFN-36-4100x4100TP_L (QFN, 36-Leads, Body 6x6mm, Pitch 0.5mm, Thermal Pad 4.1x4.1mm, IPC High Density)
footprint SLAB-QFN-36-4100x4100TP_M (QFN, 36-Leads, Body 6x6mm, Pitch 0.5mm, Thermal Pad 4.1x4.1mm, IPC Low Density)
part A pins: 1 ~{RST} (in) "External Reset.", 3 INT_LOS1 (hiz) "Interrupt/CKIN1 LOS Indicator.", 4 LOS2 (hiz) "CKIN2 Invalid Indicator.", 5 VDD (power) "Supply.", 6 XA (in) "External Crystal or Reference Clock.", 7 XB (in) "External Crystal or Reference Clock.", 8 GND (power) "Ground.", 10 VDD (power) "Supply.", 11 RATE (in) "External Crystal or Reference Clock Rate.", 12 CKIN2+ (in) "Clock Input 2.", 13 CKIN2- (in) "Clock Input 2.", 15 GND (power) "Ground.", 16 CKIN1+ (in) "Clock Input 1.", 17 CKIN1- (in) "Clock Input 1.", 18 LOL (hiz) "PLL Loss of Lock Indicator.", 21 CKSEL (in) "Input Clock Select.", 22 SCL (in) "Serial Clock.", 23 SDA_SDO (io) "Serial Data.", 24 A0 (in) "Serial Port Address.", 25 A1 (in) "Serial Port Address.", 26 A2_~{SS} (in) "Serial Port Address/Slave Select.", 27 SDI (in) "Serial Data In.", 28 CKOUT1+ (hiz) "Output Clock 1", 29 CKOUT1- (hiz) "Output Clock 1", 31 GND (power) "Ground.", 32 VDD (power) "Supply.", 34 CKOUT2- (hiz) "Output Clock 2.", 35 CKOUT2+ (hiz) "Output Clock 2.", 36 CMODE (in) "Control Mode.", 37 GND (power) "Ground Pad."
part B pins: 2 NC "No Connection.", 9 NC "No Connection.", 14 NC "No Connection.", 19 NC "No Connection.", 20 NC "No Connection.", 30 NC "No Connection.", 33 NC "No Connection."

## Si5330A-B00200-GM
designator U?
3.3 V Low-Jitter, Low-Skew Clock Buffer / Level Translator, 5 to 710 MHz, -40 to 85 degC, 24-pin QFN; Manufacturer: Silicon Labs; PartNumber: Si5330A-B00200-GM; Frequency (MHz): 5 to 710; Output Format: LVPECL; Sub-Family: Clock Buffers; DatasheetVersion: Rev. 1.1; PackageReference: QFN-24; PackageDescription: 24-Pin Quad-Flat No-Leads Package, Body 4 x 4 mm, Pitch 0.5 mm; Supplier 1: Digi-Key; Supplier Part Number 1: SI5330A-B00200-GM-ND; Supplier 2: Mouser; Supplier Part Number 2: 634-SI5330A-B00200GM; Mounting Technology: Surface Mount; Code_JEDEC: MO-220; Code_IPC: J-STD-020; ComponentLink1Description: Manufacturer URL; ComponentLink1URL: http://www.silabs.com/; ComponentLink2Description: Datasheet; ComponentLink2URL: http://www.silabs.com/Support%20Documents/TechnicalDocs/Si5330.pdf; ComponentLink3Description: Package Specification; ComponentLink3URL: http://www.silabs.com/Support%20Documents/TechnicalDocs/Si5330.pdf
footprint SLAB-QFN-24-2500x2500TP_N (QFN, 24-Leads, Body 4x4mm, Pitch 0.5mm, Thermal Pad 2.5x2.5mm, IPC Medium Density)
footprint SLAB-QFN-24-2500x2500TP_L (QFN, 24-Leads, Body 4x4mm, Pitch 0.5mm, Thermal Pad 2.5x2.5mm, IPC High Density)
footprint SLAB-QFN-24-2500x2500TP_M (QFN, 24-Leads, Body 4x4mm, Pitch 0.5mm, Thermal Pad 2.5x2.5mm, IPC Low Density)
part A pins: 1 IN1 (in), 2 IN2 (in), 3 IN3 (in), 8 LOS (oc) "Loss of Signal Indicator.", 9 CLK3B (out), 10 CLK3A (out), 13 CLK2B (out), 14 CLK2A (out), 17 CLK1B (out), 18 CLK1A (out), 19 OEB (in) "Output Enable.", 21 CLK0B (out), 22 CLK0A (out)
part B pins: 4 RSVD_GND (power) "Ground.", 5 RSVD_GND (power) "Ground.", 6 RSVD_GND (power) "Ground.", 7 VDD (power) "Core Supply Voltage.", 11 VDDO3 (power) "Output Clock Supply Voltage.", 12 RSVD_GND (power) "Ground.", 15 VDDO2 (power) "Output Clock Supply Voltage.", 16 VDDO1 (power) "Output Clock Supply Voltage.", 20 VDDO0 (power) "Output Clock Supply Voltage.", 23 RSVD_GND (power) "Ground.", 24 VDD (power) "Core Supply Voltage.", 25 GND (power) "Ground Pad."

## Si5330A-B00200-GMR
designator U?
3.3 V Low-Jitter, Low-Skew Clock Buffer / Level Translator, 5 to 710 MHz, -40 to 85 degC, 24-pin QFN, Tape and Reel; Manufacturer: Silicon Labs; PartNumber: Si5330A-B00200-GMR; Frequency (MHz): 5 to 710; Output Format: LVPECL; Sub-Family: Clock Buffers; DatasheetVersion: Rev. 1.1; PackageReference: QFN-24; PackageDescription: 24-Pin Quad-Flat No-Leads Package, Body 4 x 4 mm, Pitch 0.5 mm; Supplier 1: Digi-Key; Supplier Part Number 1: SI5330A-B00200-GMR-ND; Supplier 2: Mouser; Supplier Part Number 2: 634-SI5330AB00200GMR; Packing: Tape and Reel; Mounting Technology: Surface Mount; Code_JEDEC: MO-220; Code_IPC: J-STD-020; ComponentLink1Description: Manufacturer URL; ComponentLink1URL: http://www.silabs.com/; ComponentLink2Description: Datasheet; ComponentLink2URL: http://www.silabs.com/Support%20Documents/TechnicalDocs/Si5330.pdf; ComponentLink3Description: Package Specification; ComponentLink3URL: http://www.silabs.com/Support%20Documents/TechnicalDocs/Si5330.pdf
footprint SLAB-QFN-24-2500x2500TP_N (QFN, 24-Leads, Body 4x4mm, Pitch 0.5mm, Thermal Pad 2.5x2.5mm, IPC Medium Density)
footprint SLAB-QFN-24-2500x2500TP_L (QFN, 24-Leads, Body 4x4mm, Pitch 0.5mm, Thermal Pad 2.5x2.5mm, IPC High Density)
footprint SLAB-QFN-24-2500x2500TP_M (QFN, 24-Leads, Body 4x4mm, Pitch 0.5mm, Thermal Pad 2.5x2.5mm, IPC Low Density)
part A pins: 1 IN1 (in), 2 IN2 (in), 3 IN3 (in), 8 LOS (oc) "Loss of Signal Indicator.", 9 CLK3B (out), 10 CLK3A (out), 13 CLK2B (out), 14 CLK2A (out), 17 CLK1B (out), 18 CLK1A (out), 19 OEB (in) "Output Enable.", 21 CLK0B (out), 22 CLK0A (out)
part B pins: 4 RSVD_GND (power) "Ground.", 5 RSVD_GND (power) "Ground.", 6 RSVD_GND (power) "Ground.", 7 VDD (power) "Core Supply Voltage.", 11 VDDO3 (power) "Output Clock Supply Voltage.", 12 RSVD_GND (power) "Ground.", 15 VDDO2 (power) "Output Clock Supply Voltage.", 16 VDDO1 (power) "Output Clock Supply Voltage.", 20 VDDO0 (power) "Output Clock Supply Voltage.", 23 RSVD_GND (power) "Ground.", 24 VDD (power) "Core Supply Voltage.", 25 GND (power) "Ground Pad."

## Si5330A-B00202-GM
designator U?
2.5 V Low-Jitter, Low-Skew Clock Buffer / Level Translator, 5 to 710 MHz, -40 to 85 degC, 24-pin QFN; Manufacturer: Silicon Labs; PartNumber: Si5330A-B00202-GM; Frequency (MHz): 5 to 710; Output Format: LVPECL; Sub-Family: Clock Buffers; DatasheetVersion: Rev. 1.1; PackageReference: QFN-24; PackageDescription: 24-Pin Quad-Flat No-Leads Package, Body 4 x 4 mm, Pitch 0.5 mm; Supplier 1: Digi-Key; Supplier Part Number 1: SI5330A-B00202-GM-ND; Supplier 2: Mouser; Supplier Part Number 2: 634-SI5330A-B00202GM; Mounting Technology: Surface Mount; Code_JEDEC: MO-220; Code_IPC: J-STD-020; ComponentLink1Description: Manufacturer URL; ComponentLink1URL: http://www.silabs.com/; ComponentLink2Description: Datasheet; ComponentLink2URL: http://www.silabs.com/Support%20Documents/TechnicalDocs/Si5330.pdf; ComponentLink3Description: Package Specification; ComponentLink3URL: http://www.silabs.com/Support%20Documents/TechnicalDocs/Si5330.pdf
footprint SLAB-QFN-24-2500x2500TP_N (QFN, 24-Leads, Body 4x4mm, Pitch 0.5mm, Thermal Pad 2.5x2.5mm, IPC Medium Density)
footprint SLAB-QFN-24-2500x2500TP_L (QFN, 24-Leads, Body 4x4mm, Pitch 0.5mm, Thermal Pad 2.5x2.5mm, IPC High Density)
footprint SLAB-QFN-24-2500x2500TP_M (QFN, 24-Leads, Body 4x4mm, Pitch 0.5mm, Thermal Pad 2.5x2.5mm, IPC Low Density)
part A pins: 1 IN1 (in), 2 IN2 (in), 3 IN3 (in), 8 LOS (oc) "Loss of Signal Indicator.", 9 CLK3B (out), 10 CLK3A (out), 13 CLK2B (out), 14 CLK2A (out), 17 CLK1B (out), 18 CLK1A (out), 19 OEB (in) "Output Enable.", 21 CLK0B (out), 22 CLK0A (out)
part B pins: 4 RSVD_GND (power) "Ground.", 5 RSVD_GND (power) "Ground.", 6 RSVD_GND (power) "Ground.", 7 VDD (power) "Core Supply Voltage.", 11 VDDO3 (power) "Output Clock Supply Voltage.", 12 RSVD_GND (power) "Ground.", 15 VDDO2 (power) "Output Clock Supply Voltage.", 16 VDDO1 (power) "Output Clock Supply Voltage.", 20 VDDO0 (power) "Output Clock Supply Voltage.", 23 RSVD_GND (power) "Ground.", 24 VDD (power) "Core Supply Voltage.", 25 GND (power) "Ground Pad."

## Si5330A-B00202-GMR
designator U?
2.5 V Low-Jitter, Low-Skew Clock Buffer / Level Translator, 5 to 710 MHz, -40 to 85 degC, 24-pin QFN, Tape and Reel; Manufacturer: Silicon Labs; PartNumber: Si5330A-B00202-GMR; Frequency (MHz): 5 to 710; Output Format: LVPECL; Sub-Family: Clock Buffers; DatasheetVersion: Rev. 1.1; PackageReference: QFN-24; PackageDescription: 24-Pin Quad-Flat No-Leads Package, Body 4 x 4 mm, Pitch 0.5 mm; Supplier 1: Digi-Key; Supplier Part Number 1: SI5330A-B00202-GMR-ND; Supplier 2: Mouser; Supplier Part Number 2: 634-SI5330AB00202GMR; Packing: Tape and Reel; Mounting Technology: Surface Mount; Code_JEDEC: MO-220; Code_IPC: J-STD-020; ComponentLink1Description: Manufacturer URL; ComponentLink1URL: http://www.silabs.com/; ComponentLink2Description: Datasheet; ComponentLink2URL: http://www.silabs.com/Support%20Documents/TechnicalDocs/Si5330.pdf; ComponentLink3Description: Package Specification; ComponentLink3URL: http://www.silabs.com/Support%20Documents/TechnicalDocs/Si5330.pdf
footprint SLAB-QFN-24-2500x2500TP_N (QFN, 24-Leads, Body 4x4mm, Pitch 0.5mm, Thermal Pad 2.5x2.5mm, IPC Medium Density)
footprint SLAB-QFN-24-2500x2500TP_L (QFN, 24-Leads, Body 4x4mm, Pitch 0.5mm, Thermal Pad 2.5x2.5mm, IPC High Density)
footprint SLAB-QFN-24-2500x2500TP_M (QFN, 24-Leads, Body 4x4mm, Pitch 0.5mm, Thermal Pad 2.5x2.5mm, IPC Low Density)
part A pins: 1 IN1 (in), 2 IN2 (in), 3 IN3 (in), 8 LOS (oc) "Loss of Signal Indicator.", 9 CLK3B (out), 10 CLK3A (out), 13 CLK2B (out), 14 CLK2A (out), 17 CLK1B (out), 18 CLK1A (out), 19 OEB (in) "Output Enable.", 21 CLK0B (out), 22 CLK0A (out)
part B pins: 4 RSVD_GND (power) "Ground.", 5 RSVD_GND (power) "Ground.", 6 RSVD_GND (power) "Ground.", 7 VDD (power) "Core Supply Voltage.", 11 VDDO3 (power) "Output Clock Supply Voltage.", 12 RSVD_GND (power) "Ground.", 15 VDDO2 (power) "Output Clock Supply Voltage.", 16 VDDO1 (power) "Output Clock Supply Voltage.", 20 VDDO0 (power) "Output Clock Supply Voltage.", 23 RSVD_GND (power) "Ground.", 24 VDD (power) "Core Supply Voltage.", 25 GND (power) "Ground Pad."

## Si5330B-B00204-GM
designator U?
3.3 V Low-Jitter, Low-Skew Clock Buffer / Level Translator, 5 to 710 MHz, -40 to 85 degC, 24-pin QFN; Manufacturer: Silicon Labs; PartNumber: Si5330B-B00204-GM; Frequency (MHz): 5 to 710; Output Format: LVDS; Sub-Family: Clock Buffers; DatasheetVersion: Rev. 1.1; PackageReference: QFN-24; PackageDescription: 24-Pin Quad-Flat No-Leads Package, Body 4 x 4 mm, Pitch 0.5 mm; Supplier 1: Digi-Key; Supplier Part Number 1: SI5330B-B00204-GM-ND; Supplier 2: Mouser; Supplier Part Number 2: 634-SI5330B-B00204GM; Mounting Technology: Surface Mount; Code_JEDEC: MO-220; Code_IPC: J-STD-020; ComponentLink1Description: Manufacturer URL; ComponentLink1URL: http://www.silabs.com/; ComponentLink2Description: Datasheet; ComponentLink2URL: http://www.silabs.com/Support%20Documents/TechnicalDocs/Si5330.pdf; ComponentLink3Description: Package Specification; ComponentLink3URL: http://www.silabs.com/Support%20Documents/TechnicalDocs/Si5330.pdf
footprint SLAB-QFN-24-2500x2500TP_N (QFN, 24-Leads, Body 4x4mm, Pitch 0.5mm, Thermal Pad 2.5x2.5mm, IPC Medium Density)
footprint SLAB-QFN-24-2500x2500TP_L (QFN, 24-Leads, Body 4x4mm, Pitch 0.5mm, Thermal Pad 2.5x2.5mm, IPC High Density)
footprint SLAB-QFN-24-2500x2500TP_M (QFN, 24-Leads, Body 4x4mm, Pitch 0.5mm, Thermal Pad 2.5x2.5mm, IPC Low Density)
part A pins: 1 IN1 (in), 2 IN2 (in), 3 IN3 (in), 8 LOS (oc) "Loss of Signal Indicator.", 9 CLK3B (out), 10 CLK3A (out), 13 CLK2B (out), 14 CLK2A (out), 17 CLK1B (out), 18 CLK1A (out), 19 OEB (in) "Output Enable.", 21 CLK0B (out), 22 CLK0A (out)
part B pins: 4 RSVD_GND (power) "Ground.", 5 RSVD_GND (power) "Ground.", 6 RSVD_GND (power) "Ground.", 7 VDD (power) "Core Supply Voltage.", 11 VDDO3 (power) "Output Clock Supply Voltage.", 12 RSVD_GND (power) "Ground.", 15 VDDO2 (power) "Output Clock Supply Voltage.", 16 VDDO1 (power) "Output Clock Supply Voltage.", 20 VDDO0 (power) "Output Clock Supply Voltage.", 23 RSVD_GND (power) "Ground.", 24 VDD (power) "Core Supply Voltage.", 25 GND (power) "Ground Pad."

## Si5330B-B00204-GMR
designator U?
3.3 V Low-Jitter, Low-Skew Clock Buffer / Level Translator, 5 to 710 MHz, -40 to 85 degC, 24-pin QFN, Tape and Reel; Manufacturer: Silicon Labs; PartNumber: Si5330B-B00204-GMR; Frequency (MHz): 5 to 710; Output Format: LVDS; Sub-Family: Clock Buffers; DatasheetVersion: Rev. 1.1; PackageReference: QFN-24; PackageDescription: 24-Pin Quad-Flat No-Leads Package, Body 4 x 4 mm, Pitch 0.5 mm; Supplier 1: Digi-Key; Supplier Part Number 1: SI5330B-B00204-GMR-ND; Supplier 2: Mouser; Supplier Part Number 2: 634-SI5330BB00204GMR; Packing: Tape and Reel; Mounting Technology: Surface Mount; Code_JEDEC: MO-220; Code_IPC: J-STD-020; ComponentLink1Description: Manufacturer URL; ComponentLink1URL: http://www.silabs.com/; ComponentLink2Description: Datasheet; ComponentLink2URL: http://www.silabs.com/Support%20Documents/TechnicalDocs/Si5330.pdf; ComponentLink3Description: Package Specification; ComponentLink3URL: http://www.silabs.com/Support%20Documents/TechnicalDocs/Si5330.pdf
footprint SLAB-QFN-24-2500x2500TP_N (QFN, 24-Leads, Body 4x4mm, Pitch 0.5mm, Thermal Pad 2.5x2.5mm, IPC Medium Density)
footprint SLAB-QFN-24-2500x2500TP_L (QFN, 24-Leads, Body 4x4mm, Pitch 0.5mm, Thermal Pad 2.5x2.5mm, IPC High Density)
footprint SLAB-QFN-24-2500x2500TP_M (QFN, 24-Leads, Body 4x4mm, Pitch 0.5mm, Thermal Pad 2.5x2.5mm, IPC Low Density)
part A pins: 1 IN1 (in), 2 IN2 (in), 3 IN3 (in), 8 LOS (oc) "Loss of Signal Indicator.", 9 CLK3B (out), 10 CLK3A (out), 13 CLK2B (out), 14 CLK2A (out), 17 CLK1B (out), 18 CLK1A (out), 19 OEB (in) "Output Enable.", 21 CLK0B (out), 22 CLK0A (out)
part B pins: 4 RSVD_GND (power) "Ground.", 5 RSVD_GND (power) "Ground.", 6 RSVD_GND (power) "Ground.", 7 VDD (power) "Core Supply Voltage.", 11 VDDO3 (power) "Output Clock Supply Voltage.", 12 RSVD_GND (power) "Ground.", 15 VDDO2 (power) "Output Clock Supply Voltage.", 16 VDDO1 (power) "Output Clock Supply Voltage.", 20 VDDO0 (power) "Output Clock Supply Voltage.", 23 RSVD_GND (power) "Ground.", 24 VDD (power) "Core Supply Voltage.", 25 GND (power) "Ground Pad."

## Si5330B-B00205-GM
designator U?
2.5 V Low-Jitter, Low-Skew Clock Buffer / Level Translator, 5 to 710 MHz, -40 to 85 degC, 24-pin QFN; Manufacturer: Silicon Labs; PartNumber: Si5330B-B00205-GM; Frequency (MHz): 5 to 710; Output Format: LVDS; Sub-Family: Clock Buffers; DatasheetVersion: Rev. 1.1; PackageReference: QFN-24; PackageDescription: 24-Pin Quad-Flat No-Leads Package, Body 4 x 4 mm, Pitch 0.5 mm; Supplier 1: Digi-Key; Supplier Part Number 1: SI5330B-B00205-GM-ND; Supplier 2: Mouser; Supplier Part Number 2: 634-SI5330B-B00205GM; Mounting Technology: Surface Mount; Code_JEDEC: MO-220; Code_IPC: J-STD-020; ComponentLink1Description: Manufacturer URL; ComponentLink1URL: http://www.silabs.com/; ComponentLink2Description: Datasheet; ComponentLink2URL: http://www.silabs.com/Support%20Documents/TechnicalDocs/Si5330.pdf; ComponentLink3Description: Package Specification; ComponentLink3URL: http://www.silabs.com/Support%20Documents/TechnicalDocs/Si5330.pdf
footprint SLAB-QFN-24-2500x2500TP_N (QFN, 24-Leads, Body 4x4mm, Pitch 0.5mm, Thermal Pad 2.5x2.5mm, IPC Medium Density)
footprint SLAB-QFN-24-2500x2500TP_L (QFN, 24-Leads, Body 4x4mm, Pitch 0.5mm, Thermal Pad 2.5x2.5mm, IPC High Density)
footprint SLAB-QFN-24-2500x2500TP_M (QFN, 24-Leads, Body 4x4mm, Pitch 0.5mm, Thermal Pad 2.5x2.5mm, IPC Low Density)
part A pins: 1 IN1 (in), 2 IN2 (in), 3 IN3 (in), 8 LOS (oc) "Loss of Signal Indicator.", 9 CLK3B (out), 10 CLK3A (out), 13 CLK2B (out), 14 CLK2A (out), 17 CLK1B (out), 18 CLK1A (out), 19 OEB (in) "Output Enable.", 21 CLK0B (out), 22 CLK0A (out)
part B pins: 4 RSVD_GND (power) "Ground.", 5 RSVD_GND (power) "Ground.", 6 RSVD_GND (power) "Ground.", 7 VDD (power) "Core Supply Voltage.", 11 VDDO3 (power) "Output Clock Supply Voltage.", 12 RSVD_GND (power) "Ground.", 15 VDDO2 (power) "Output Clock Supply Voltage.", 16 VDDO1 (power) "Output Clock Supply Voltage.", 20 VDDO0 (power) "Output Clock Supply Voltage.", 23 RSVD_GND (power) "Ground.", 24 VDD (power) "Core Supply Voltage.", 25 GND (power) "Ground Pad."

## Si5330B-B00205-GMR
designator U?
2.5 V Low-Jitter, Low-Skew Clock Buffer / Level Translator, 5 to 710 MHz, -40 to 85 degC, 24-pin QFN, Tape and Reel; Manufacturer: Silicon Labs; PartNumber: Si5330B-B00205-GMR; Frequency (MHz): 5 to 710; Output Format: LVDS; Sub-Family: Clock Buffers; DatasheetVersion: Rev. 1.1; PackageReference: QFN-24; PackageDescription: 24-Pin Quad-Flat No-Leads Package, Body 4 x 4 mm, Pitch 0.5 mm; Supplier 1: Digi-Key; Supplier Part Number 1: SI5330B-B00205-GMR-ND; Supplier 2: Mouser; Supplier Part Number 2: 634-SI5330BB00205GMR; Packing: Tape and Reel; Mounting Technology: Surface Mount; Code_JEDEC: MO-220; Code_IPC: J-STD-020; ComponentLink1Description: Manufacturer URL; ComponentLink1URL: http://www.silabs.com/; ComponentLink2Description: Datasheet; ComponentLink2URL: http://www.silabs.com/Support%20Documents/TechnicalDocs/Si5330.pdf; ComponentLink3Description: Package Specification; ComponentLink3URL: http://www.silabs.com/Support%20Documents/TechnicalDocs/Si5330.pdf
footprint SLAB-QFN-24-2500x2500TP_N (QFN, 24-Leads, Body 4x4mm, Pitch 0.5mm, Thermal Pad 2.5x2.5mm, IPC Medium Density)
footprint SLAB-QFN-24-2500x2500TP_L (QFN, 24-Leads, Body 4x4mm, Pitch 0.5mm, Thermal Pad 2.5x2.5mm, IPC High Density)
footprint SLAB-QFN-24-2500x2500TP_M (QFN, 24-Leads, Body 4x4mm, Pitch 0.5mm, Thermal Pad 2.5x2.5mm, IPC Low Density)
part A pins: 1 IN1 (in), 2 IN2 (in), 3 IN3 (in), 8 LOS (oc) "Loss of Signal Indicator.", 9 CLK3B (out), 10 CLK3A (out), 13 CLK2B (out), 14 CLK2A (out), 17 CLK1B (out), 18 CLK1A (out), 19 OEB (in) "Output Enable.", 21 CLK0B (out), 22 CLK0A (out)
part B pins: 4 RSVD_GND (power) "Ground.", 5 RSVD_GND (power) "Ground.", 6 RSVD_GND (power) "Ground.", 7 VDD (power) "Core Supply Voltage.", 11 VDDO3 (power) "Output Clock Supply Voltage.", 12 RSVD_GND (power) "Ground.", 15 VDDO2 (power) "Output Clock Supply Voltage.", 16 VDDO1 (power) "Output Clock Supply Voltage.", 20 VDDO0 (power) "Output Clock Supply Voltage.", 23 RSVD_GND (power) "Ground.", 24 VDD (power) "Core Supply Voltage.", 25 GND (power) "Ground Pad."

## Si5330B-B00206-GM
designator U?
1.8 V Low-Jitter, Low-Skew Clock Buffer / Level Translator, 5 to 710 MHz, -40 to 85 degC, 24-pin QFN; Manufacturer: Silicon Labs; PartNumber: Si5330B-B00206-GM; Frequency (MHz): 5 to 710; Output Format: LVDS; Sub-Family: Clock Buffers; DatasheetVersion: Rev. 1.1; PackageReference: QFN-24; PackageDescription: 24-Pin Quad-Flat No-Leads Package, Body 4 x 4 mm, Pitch 0.5 mm; Supplier 1: Digi-Key; Supplier Part Number 1: SI5330B-B00206-GM-ND; Supplier 2: Mouser; Supplier Part Number 2: 634-SI5330B-B00206GM; Mounting Technology: Surface Mount; Code_JEDEC: MO-220; Code_IPC: J-STD-020; ComponentLink1Description: Manufacturer URL; ComponentLink1URL: http://www.silabs.com/; ComponentLink2Description: Datasheet; ComponentLink2URL: http://www.silabs.com/Support%20Documents/TechnicalDocs/Si5330.pdf; ComponentLink3Description: Package Specification; ComponentLink3URL: http://www.silabs.com/Support%20Documents/TechnicalDocs/Si5330.pdf
footprint SLAB-QFN-24-2500x2500TP_N (QFN, 24-Leads, Body 4x4mm, Pitch 0.5mm, Thermal Pad 2.5x2.5mm, IPC Medium Density)
footprint SLAB-QFN-24-2500x2500TP_L (QFN, 24-Leads, Body 4x4mm, Pitch 0.5mm, Thermal Pad 2.5x2.5mm, IPC High Density)
footprint SLAB-QFN-24-2500x2500TP_M (QFN, 24-Leads, Body 4x4mm, Pitch 0.5mm, Thermal Pad 2.5x2.5mm, IPC Low Density)
part A pins: 1 IN1 (in), 2 IN2 (in), 3 IN3 (in), 8 LOS (oc) "Loss of Signal Indicator.", 9 CLK3B (out), 10 CLK3A (out), 13 CLK2B (out), 14 CLK2A (out), 17 CLK1B (out), 18 CLK1A (out), 19 OEB (in) "Output Enable.", 21 CLK0B (out), 22 CLK0A (out)
part B pins: 4 RSVD_GND (power) "Ground.", 5 RSVD_GND (power) "Ground.", 6 RSVD_GND (power) "Ground.", 7 VDD (power) "Core Supply Voltage.", 11 VDDO3 (power) "Output Clock Supply Voltage.", 12 RSVD_GND (power) "Ground.", 15 VDDO2 (power) "Output Clock Supply Voltage.", 16 VDDO1 (power) "Output Clock Supply Voltage.", 20 VDDO0 (power) "Output Clock Supply Voltage.", 23 RSVD_GND (power) "Ground.", 24 VDD (power) "Core Supply Voltage.", 25 GND (power) "Ground Pad."

## Si5330B-B00206-GMR
designator U?
1.8 V Low-Jitter, Low-Skew Clock Buffer / Level Translator, 5 to 710 MHz, -40 to 85 degC, 24-pin QFN, Tape and Reel; Manufacturer: Silicon Labs; PartNumber: Si5330B-B00206-GMR; Frequency (MHz): 5 to 710; Output Format: LVDS; Sub-Family: Clock Buffers; DatasheetVersion: Rev. 1.1; PackageReference: QFN-24; PackageDescription: 24-Pin Quad-Flat No-Leads Package, Body 4 x 4 mm, Pitch 0.5 mm; Supplier 1: Digi-Key; Supplier Part Number 1: SI5330B-B00206-GMR-ND; Supplier 2: Mouser; Supplier Part Number 2: 634-SI5330BB00206GMR; Packing: Tape and Reel; Mounting Technology: Surface Mount; Code_JEDEC: MO-220; Code_IPC: J-STD-020; ComponentLink1Description: Manufacturer URL; ComponentLink1URL: http://www.silabs.com/; ComponentLink2Description: Datasheet; ComponentLink2URL: http://www.silabs.com/Support%20Documents/TechnicalDocs/Si5330.pdf; ComponentLink3Description: Package Specification; ComponentLink3URL: http://www.silabs.com/Support%20Documents/TechnicalDocs/Si5330.pdf
footprint SLAB-QFN-24-2500x2500TP_N (QFN, 24-Leads, Body 4x4mm, Pitch 0.5mm, Thermal Pad 2.5x2.5mm, IPC Medium Density)
footprint SLAB-QFN-24-2500x2500TP_L (QFN, 24-Leads, Body 4x4mm, Pitch 0.5mm, Thermal Pad 2.5x2.5mm, IPC High Density)
footprint SLAB-QFN-24-2500x2500TP_M (QFN, 24-Leads, Body 4x4mm, Pitch 0.5mm, Thermal Pad 2.5x2.5mm, IPC Low Density)
part A pins: 1 IN1 (in), 2 IN2 (in), 3 IN3 (in), 8 LOS (oc) "Loss of Signal Indicator.", 9 CLK3B (out), 10 CLK3A (out), 13 CLK2B (out), 14 CLK2A (out), 17 CLK1B (out), 18 CLK1A (out), 19 OEB (in) "Output Enable.", 21 CLK0B (out), 22 CLK0A (out)
part B pins: 4 RSVD_GND (power) "Ground.", 5 RSVD_GND (power) "Ground.", 6 RSVD_GND (power) "Ground.", 7 VDD (power) "Core Supply Voltage.", 11 VDDO3 (power) "Output Clock Supply Voltage.", 12 RSVD_GND (power) "Ground.", 15 VDDO2 (power) "Output Clock Supply Voltage.", 16 VDDO1 (power) "Output Clock Supply Voltage.", 20 VDDO0 (power) "Output Clock Supply Voltage.", 23 RSVD_GND (power) "Ground.", 24 VDD (power) "Core Supply Voltage.", 25 GND (power) "Ground Pad."

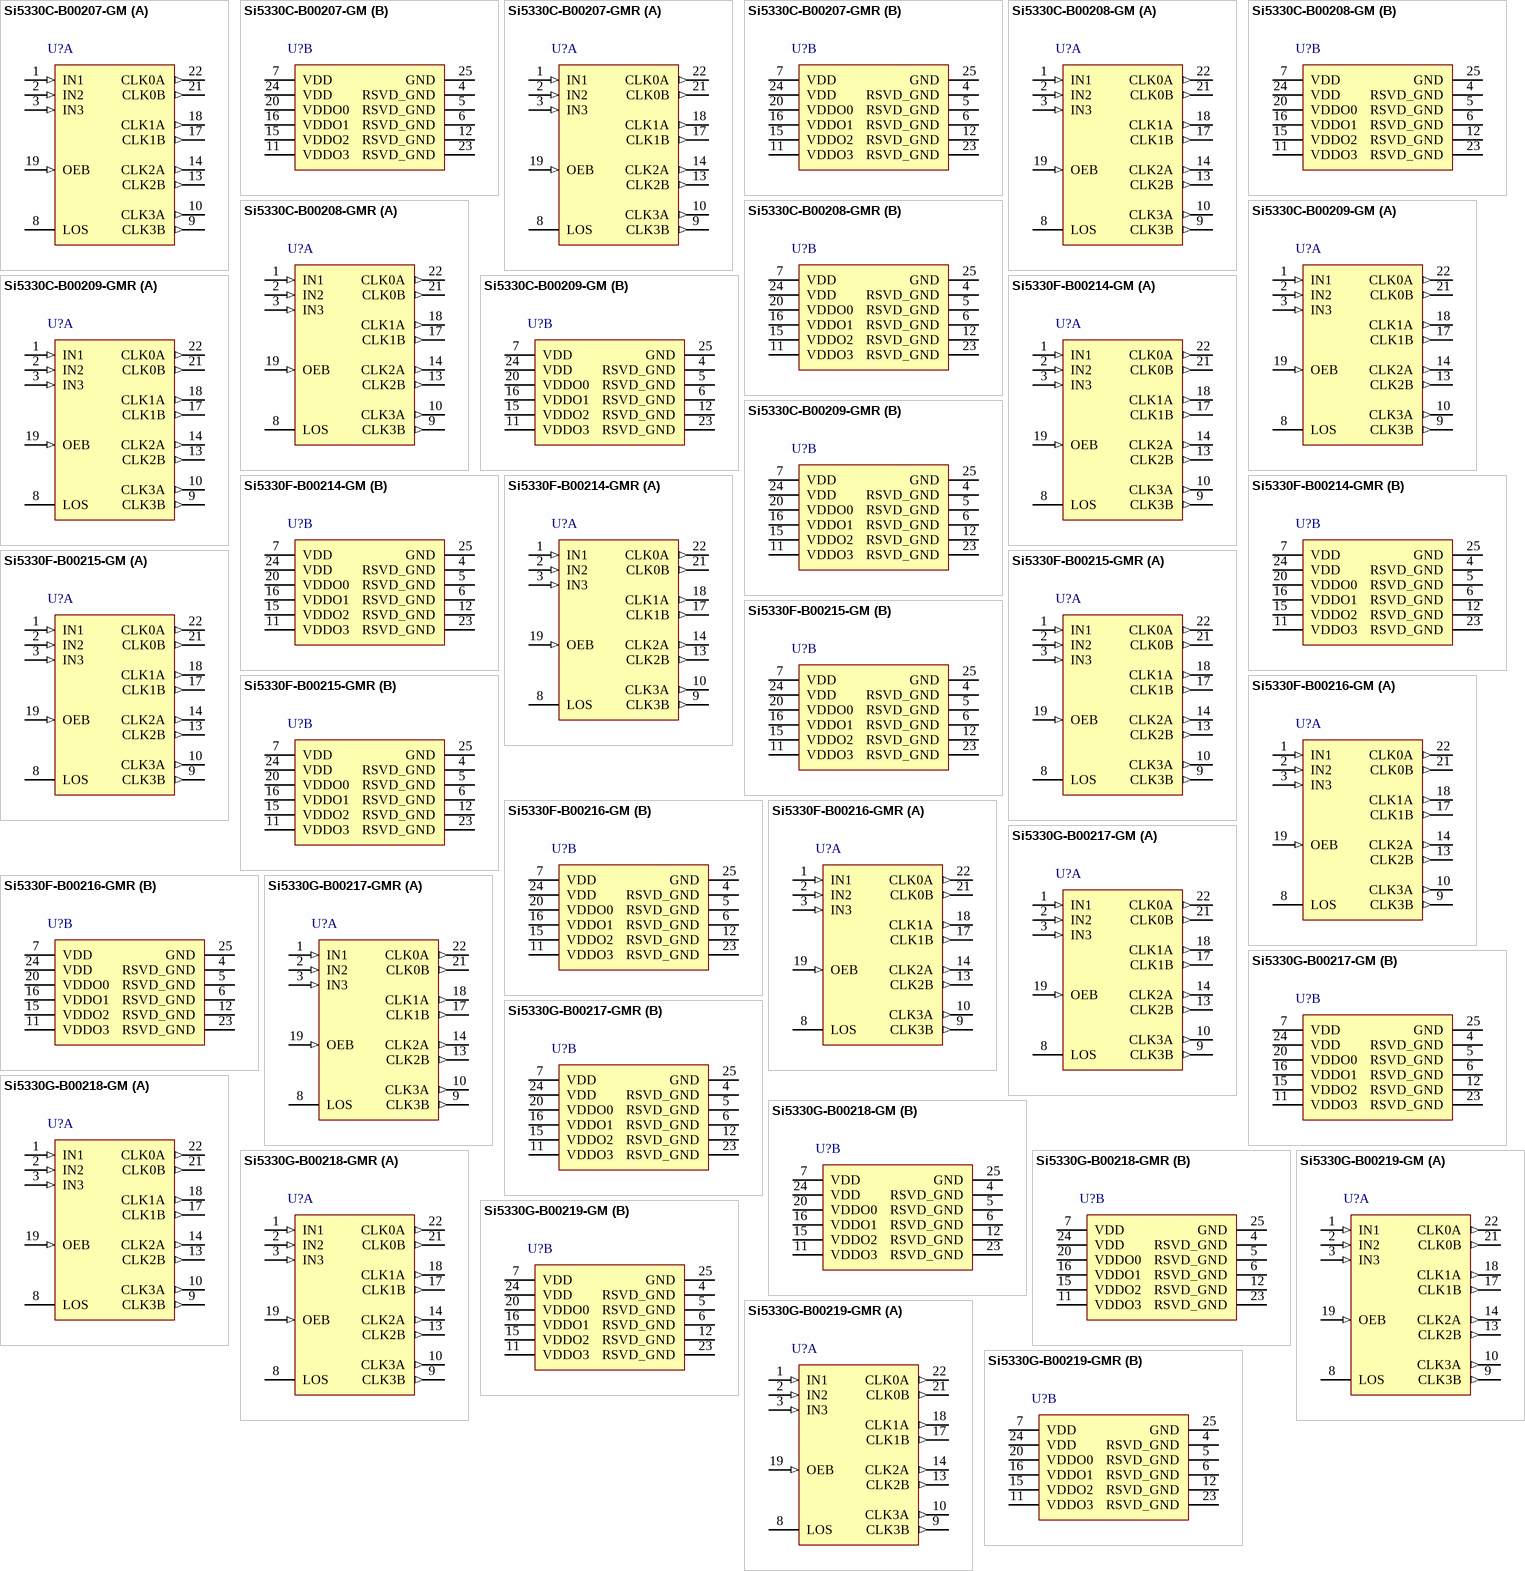
[diagram p16: symbols Si5330C-B00207-GM to Si5330G-B00219-GMR]